# Altium schematic symbol library OSTA56A1A-C.Schlib: 1 symbol
Pins are listed as number, name and electrical type; pins without a type are passive.

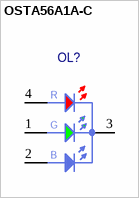
[diagram p0: symbol OSTA56A1A-C]

## OSTA56A1A-C
designator OL?  (value not drawn)
Tricolor (RGB) LED
pins: 1 AG, 2 AB, 3 CC, 4 AR
text: R; G; B